# Altium footprint library Passive.PcbLib: 35 footprints (part 1 of 3)
Each footprint in its own frame and in the unit in brackets; x right, y up, seen from the top. Pads: shape width x height; smd on the part's side, far side on the other; paste and mask are expansions set on the pad; w line width, h text height; cw(c..) or ccw(c..) is an arc to the next point about the centre after c.
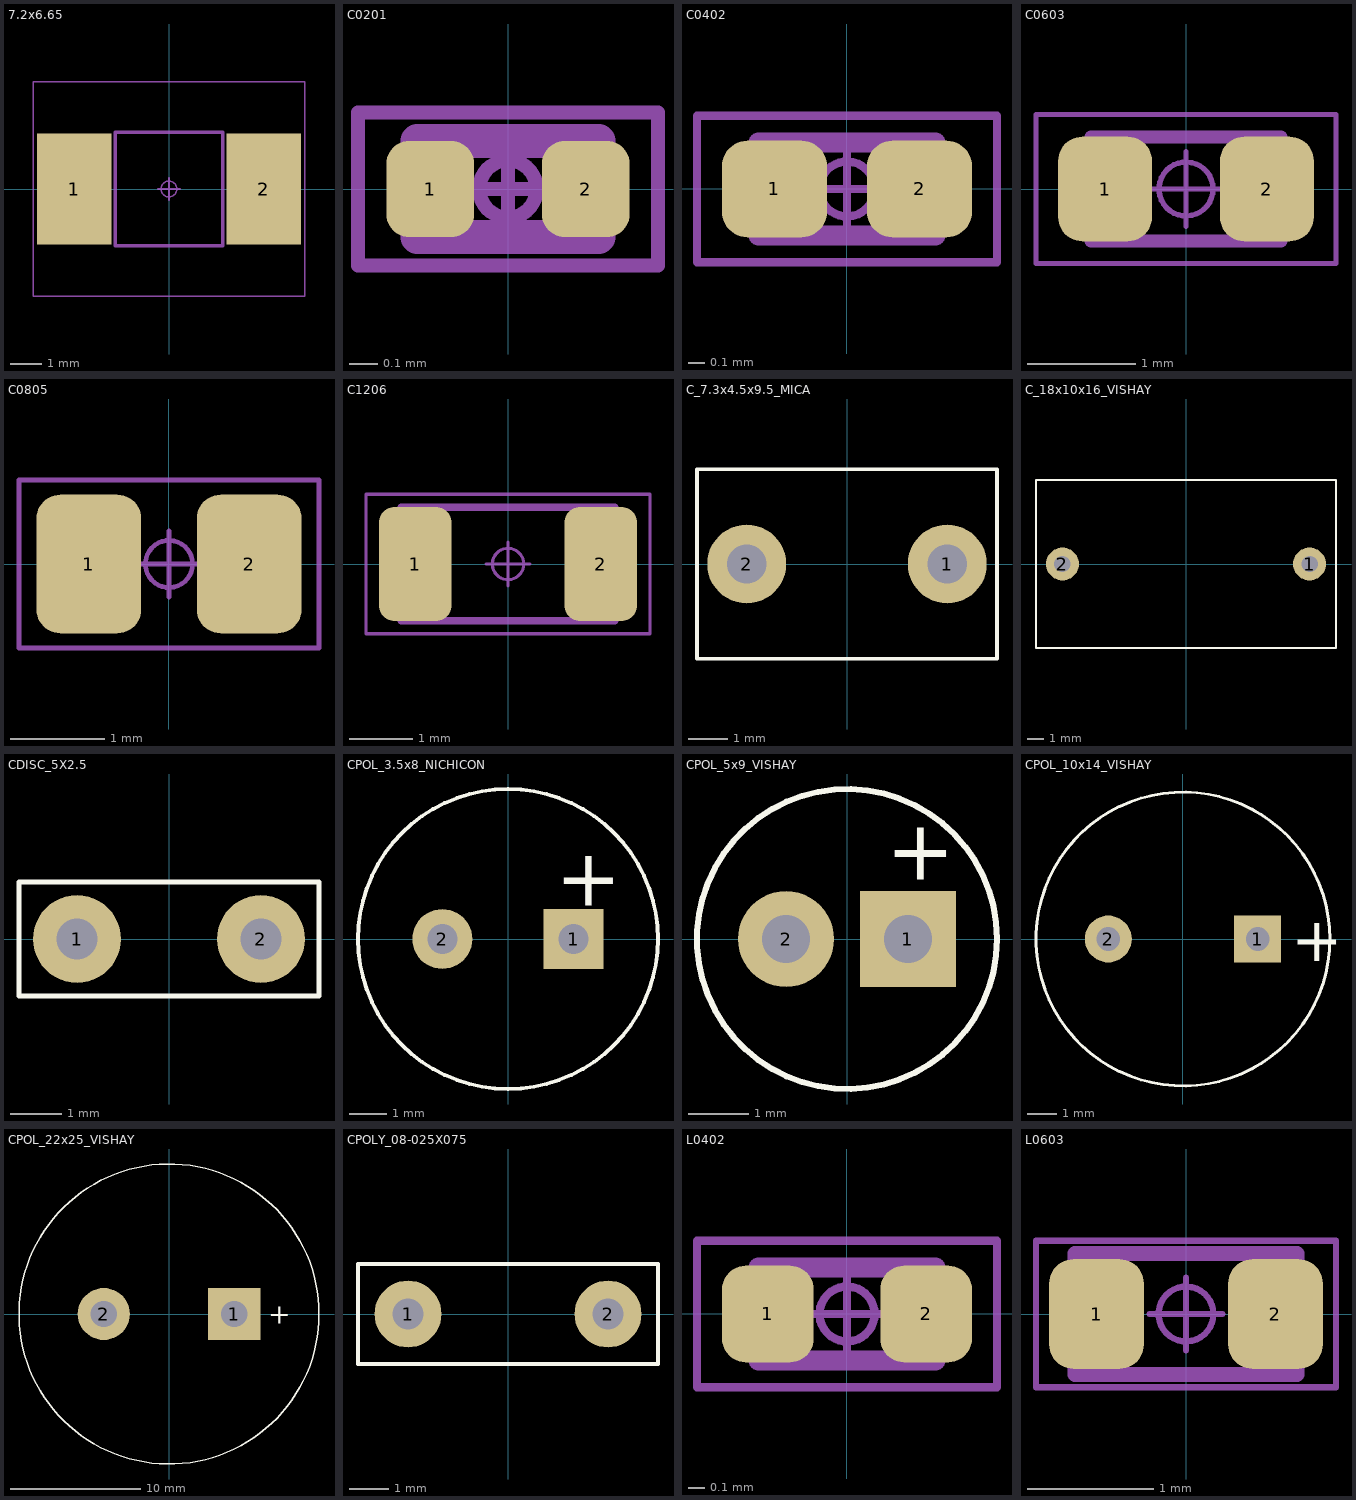
[diagram p0: the footprints below, top view; thin cyan lines are the x and y axes]

## 7.2x6.65 [mm] "7.2x6.65x3mm Inductor"
pads (2):
  rect 2.35x3.5 smd mask+0.05: 1(-3,0) 2(3,0)
Mechanical 13:
  lines w0.12: -1.7,-1.8 -1.7,1.8 1.7,1.8 1.7,-1.8 -1.7,-1.8
Mechanical 15:
  circle w0.05: c0,0 r0.25
  lines w0.05: -0.35,0 0.35,0 ; 0,-0.35 0,0.35 ; -4.3,-3.4 -4.3,3.4 4.3,3.4 4.3,-3.4 -4.3,-3.4
3D body "PSM6020 Molded high current inductor.STEP": height 1.95, standoff 0.05, extent -3.6,-3.3 3.6,3.3

## C0201 [mm] "C0201"
pads (2):
  rrect52% 0.31x0.34 smd mask+0: 1(-0.275,0) 2(0.275,0)
Mechanical 13:
  lines w0.12: -0.32,-0.17 0.32,-0.17 0.32,0.17 -0.32,0.17 -0.32,-0.17
Mechanical 15:
  circle w0.05: c0,0 r0.101
  lines w0.05: -0.135,0 0.135,0 ; 0,-0.135 0,0.135 ; -0.53,-0.27 0.53,-0.27 0.53,0.27 -0.53,0.27 -0.53,-0.27
3D body "CAP-0201.stp": height 0.3, standoff 0, extent -0.3,-0.15 0.3,0.15

## C0402 [mm] "C0402"
pads (2):
  rrect52% 0.63x0.58 smd mask+0: 1(-0.435,0) 2(0.435,0)
Mechanical 13:
  lines w0.12: -0.53,-0.28 -0.53,0.28 0.53,0.28 0.53,-0.28 -0.53,-0.28
Mechanical 15:
  circle w0.05: c0,0 r0.165
  lines w0.05: -0.22,0 0.22,0 ; 0,-0.22 0,0.22 ; -0.9,-0.44 -0.9,0.44 0.9,0.44 0.9,-0.44 -0.9,-0.44
3D body "CAP-0402.stp": height 0.5, standoff 0, extent -0.5,-0.25 0.5,0.25

## C0603 [mm] "C0603"
pads (2):
  rrect51% 0.87x0.97 smd mask+0: 1(-0.75,0) 2(0.75,0)
Mechanical 13:
  lines w0.12: -0.88,-0.48 -0.88,0.48 0.88,0.48 0.88,-0.48 -0.88,-0.48
Mechanical 15:
  circle w0.05: c0,0 r0.25
  lines w0.05: -0.345,0 0.345,0 ; 0,-0.345 0,0.345 ; -1.39,-0.69 -1.39,0.69 1.39,0.69 1.39,-0.69 -1.39,-0.69
3D body "CAP-0603.stp": height 0.8, standoff 0, extent -0.8,-0.4 0.8,0.4

## C0805 [mm] "C0805"
pads (2):
  rrect45% 1.11x1.47 smd mask+0.05: 1(-0.85,0) 2(0.85,0)
Mechanical 15:
  circle w0.05: c0,0 r0.25
  lines w0.05: -0.35,0 0.35,0 ; 0,-0.35 0,0.35 ; -1.59,-0.89 -1.59,0.89 1.59,0.89 1.59,-0.89 -1.59,-0.89
3D body "CAP-0805.stp": height 1.25, standoff 0, extent -1,-0.625 1,0.625

## C1206 [mm] "C1206"
pads (2):
  rrect43% 1.16x1.82 smd mask+0.05: 1(-1.475,0) 2(1.475,0)
Mechanical 13:
  lines w0.12: -1.7,-0.9 -1.7,0.9 1.7,0.9 1.7,-0.9 -1.7,-0.9
Mechanical 15:
  circle w0.05: c0,0 r0.25
  lines w0.05: -0.35,0 0.35,0 ; 0,-0.35 0,0.35 ; -2.26,-1.11 -2.26,1.11 2.26,1.11 2.26,-1.11 -2.26,-1.11
3D body "CAP-1206.stp": height 1.6, standoff 0, extent -1.6,-0.8 1.6,0.8

## C_7.3x4.5x9.5_MICA [mm] "C_7.3x4.5x9.5_MICA"
pads (2):
  round 2 hole 1: 1(2.54,0) 2(-2.54,0)
Top Overlay:
  lines w0.1: -3.8,-2.4 -3.8,2.4 3.8,2.4 3.8,-2.4 -3.8,-2.4
3D body "CAP_BOX_7.3x4.5x9.5_BL.stp": height 9.5, standoff -2.5, extent -3.65,-2.25 3.65,2.25

## C_18x10x16_VISHAY [mm] "CPOL_18x10x16_VISHAY"
pads (2):
  round 2 hole 1: 1(7.493,0) 2(-7.493,0)
Top Overlay:
  lines w0.1: -9.1,-5.1 9.1,-5.1 9.1,5.1 -9.1,5.1 -9.1,-5.1
3D body "CAP_BOX_18x10x16_GY.stp": height 16, standoff -2.5, extent -9,-5 9,5

## CDISC_5X2.5 [mm] "CDISC_5X2.5"
pads (2):
  round 1.7 hole 0.8: 1(-1.778,0) 2(1.778,0)
Top Overlay:
  lines w0.1: -2.9,-1.1 2.9,-1.1 2.9,1.1 -2.9,1.1 -2.9,-1.1
3D body "CDISC.STEP": height 6.1, standoff -3.9, extent -2.5,-0.975 2.5,0.975

## CPOL_3.5x8_NICHICON [mm] "C220u_16V"
pads (2):
  rect 1.6x1.6 hole 0.8: 1(1.75,0)
  round 1.6 hole 0.8: 2(-1.75,0)
Top Overlay:
  circle w0.1: c0,0 r4
  text "+" at 1.27,0.889 h1.52
3D body "cpol-v_p3-5_d8_h12.stp": height 12.01, standoff -3.3, extent -4.003,-4 4,4

## CPOL_5x9_VISHAY [mm] "CPOL_5x9_VISHAY"
pads (2):
  rect 1.6x1.6 hole 0.8: 1(1.016,0)
  round 1.6 hole 0.8: 2(-1.016,0)
Top Overlay:
  circle w0.1: c0,0 r2.5
  text "+" at 0.654,0.987 h1
3D body "C-VERT__D-5__L-9__P-2__TMP-105__C-1u__U-16.stp": height 9, standoff -3.5, extent -2.501,-2.501 2.5,2.499

## CPOL_10x14_VISHAY [mm] "CPOL_10x14_VISHAY"
pads (2):
  rect 1.6x1.6 hole 0.8: 1(2.54,0)
  round 1.6 hole 0.8: 2(-2.54,0)
Top Overlay:
  circle w0.1: c0,0 r5
  text "+" at 3.683,-0.762 h1.52
3D body "CAP_Electrolytic_10X14_.step": height 14.1, standoff -4.72, extent -5,-5 5,5

## CPOL_22x25_VISHAY [mm] "CPOL_22x25_VISHAY"
pads (2):
  rect 4x4 hole 2: 1(5,0)
  round 4 hole 2: 2(-5,0)
Top Overlay:
  circle w0.1: c0,0 r11.5
  text "+" at 7.62,-0.762 h1.52
3D body: height 27, standoff 0, extent -11.5,-11.5 11.5,11.5

## CPOLY_08-025X075 [mm] "CPOLY_08-025X075"
pads (2):
  round 1.7 hole 0.8: 1(-2.54,0) 2(2.54,0)
Top Overlay:
  lines w0.1: -3.81,-1.27 -3.81,1.27 3.81,1.27 3.81,-1.27 -3.81,-1.27
3D body "C08-025X075.SLDPRT": height 7, standoff -4.5, extent -3.75,-1.25 3.75,1.25

## L0402 [mm] "L0402"
pads (2):
  rrect51% 0.55x0.58 smd paste-0.58 mask+0: 1(-0.475,0) 2(0.475,0)
Mechanical 13:
  lines w0.12: -0.53,-0.28 -0.53,0.28 0.53,0.28 0.53,-0.28 -0.53,-0.28
Mechanical 15:
  circle w0.05: c0,0 r0.165
  lines w0.05: -0.22,0 0.22,0 ; 0,-0.22 0,0.22 ; -0.9,-0.44 -0.9,0.44 0.9,0.44 0.9,-0.44 -0.9,-0.44
3D body "RES-0402.stp": height 0.34, standoff 0, extent -0.5,-0.25 0.5,0.25

## L0603 [mm] "L0603"
pads (2):
  rrect51% 0.75x0.87 smd mask+0: 1(-0.71,0) 2(0.71,0)
Mechanical 13:
  lines w0.12: -0.88,-0.48 -0.88,0.48 0.88,0.48 0.88,-0.48 -0.88,-0.48
Mechanical 15:
  circle w0.05: c0,0 r0.218
  lines w0.05: -0.29,0 0.29,0 ; 0,-0.29 0,0.29 ; -1.19,-0.58 1.19,-0.58 1.19,0.58 -1.19,0.58 -1.19,-0.58
3D body "FER-0603.stp": height 0.8, standoff 0, extent -0.8,-0.4 0.8,0.4